# EAGLE library part LTC3803-5 (library PowerProducts)
Constant Frequency Current Mode Flyback DC/DC Controller in ThinSOT
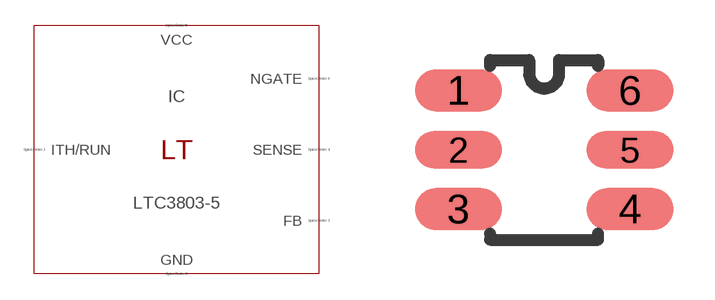
[diagram p335: symbol with the pads of SOT6(S6); footprint SOT6(S6)]

Designator prefix IC

## LTC3803-5 (SPICEMODEL: LTC3803-5.sub; SPICEPREFIX: X; VALUE2: LTC3803-5)  [SOT6(S6)]
1  ITH/RUN  pas
2  GND  pas
3  FB  pas
4  SENSE  pas
5  VCC  pas
6  NGATE  pas

## Footprint SOT6(S6) (pad centres in mm)
Package generated from: SOT6(S6).asc (!PADS-POWERPCB-V9.3-BASIC! DESIGN DATABASE ASCII FILE 1.0) with :import-pads-powerpcb-v5.ulp Version 1.0.1 at 04.10.2012 14:11:36
smd 2.175 x 1.05: 1 -2.145,1.485; 3 -2.145,-1.485; 4 2.145,-1.485; 6 2.145,1.485
smd 2.175 x 0.93: 2 -2.145,0; 5 2.145,0